# Altium integrated library TI Data Converters Analog to Digital Converter.IntLib: 2198 symbols (part 25 of 164)
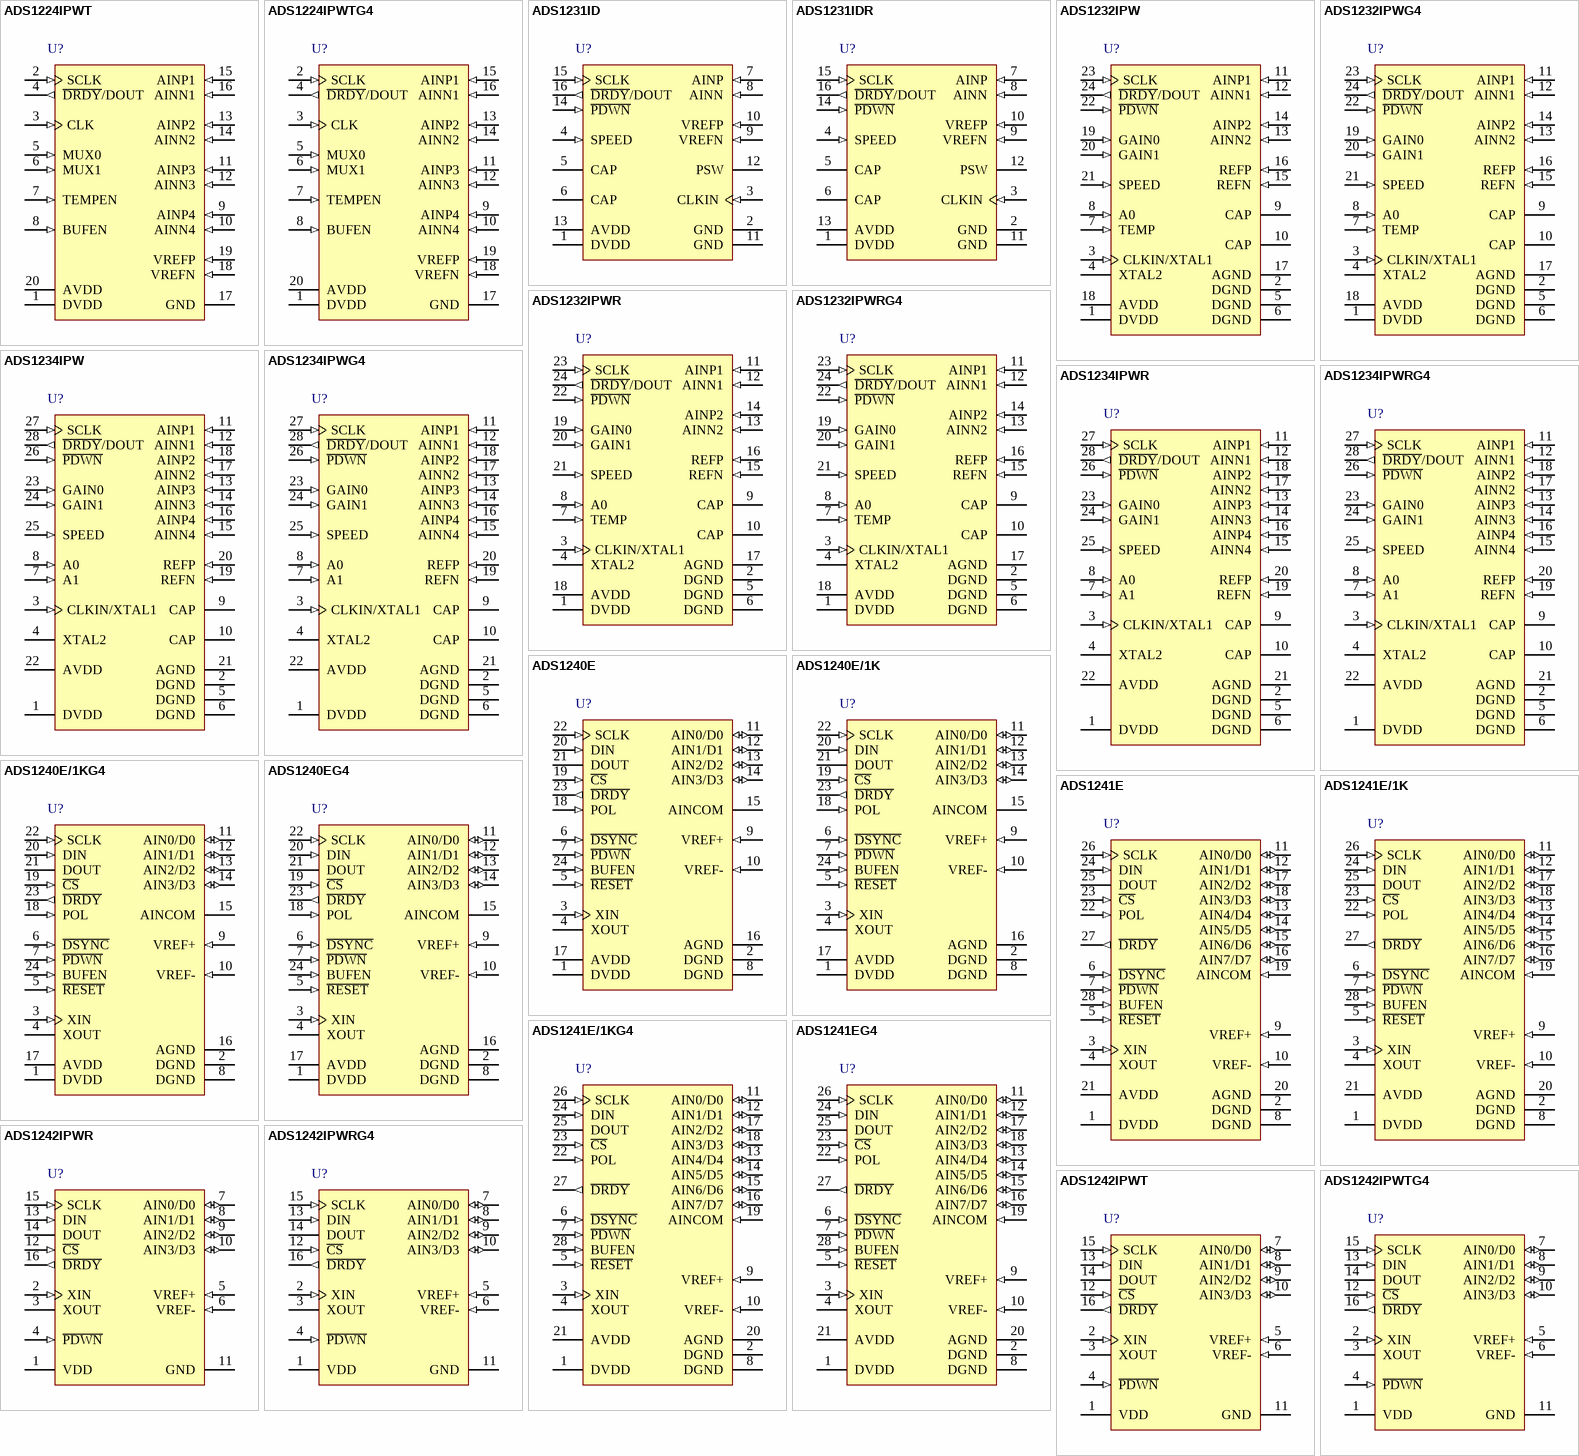
[diagram p150: symbols ADS1224IPWT to ADS1242IPWTG4]

## ADS1232IPWG4
designator U?
24-Bit, Ultra Low-Noise ADC, -40 to 105 degC, 24-pin SOP (PW24), Green (RoHS & no Sb/Br); Manufacturer: Texas Instruments; PartNumber: ADS1232IPWG4; # Input Channels: 2; Analog Voltage AV/DD(Max)(V): 5.3; Analog Voltage AV/DD(Min)(V): 2.7; Architecture: Delta-Sigma; ENOB(Bits): 21.8; Interface: Serial SPI; Resolution(Bits): 24; Sample Rate (max)(SPS): 80; SubFamily: Precision ADC (<=10MSPS); DatasheetVersion: SBAS350F; PackageVersion: 4040064-6/G, 02/2011; PackageReference: PW24; PackageDescription: 24-Pin Plastic Small Outline, Body 7.8 x 4.4 mm, Pitch 0.65 mm; Supplier 1: Digi-Key; Supplier Part Number 1: ADS1224IPWRG4-ND; Digital Supply(Max)(V): 5.3; Digital Supply(Min)(V): 2.7; Eco-Plan: Green (RoHS & no Sb/Br); Mounting Technology: Surface Mount; Code_JEDEC: MO-153; ComponentLink1Description: Manufacturer URL; ComponentLink1URL: http://www.ti.com/; ComponentLink2Description: Datasheet; ComponentLink2URL: http://www.ti.com/general/docs/lit/getliterature.tsp?genericPartNumber=ADS1232&fileType=pdf; ComponentLink3Description: Package Specification; ComponentLink3URL: http://www.ti.com/litv/pdf/mpds363
footprint TI-PW24_N (SOP, 24-Leads, Body 7.8x4.4mm, Pitch 0.65mm, IPC Medium Density)
footprint TI-PW24_L (SOP, 24-Leads, Body 7.8x4.4mm, Pitch 0.65mm, IPC High Density)
footprint TI-PW24_M (SOP, 24-Leads, Body 7.8x4.4mm, Pitch 0.65mm, IPC Low Density)
pins: 1 DVDD (power) "Digital Power Supply: 2.7V to 5.3V", 2 DGND (power) "Digital Ground", 3 CLKIN/XTAL1 (in) "External Clock Input: typically 4.9152MHz. Tie low to activate internal oscillator. Can also use external crystal across CLKIN/XTAL1 and XTAL2 pins. See text for more details.", 4 XTAL2 "External crystal connection", 5 DGND (power) "Digital Ground", 6 DGND (power) "Digital Ground", 7 TEMP (in) "Onboard Temperature Diode Enable", 8 A0 (in) "Input Mux Select Input pin (LSB)", 9 CAP "Gain Amp Bypass Capacitor Connection", 10 CAP "Gain Amp Bypass Capacitor Connection", 11 AINP1 (in) "Positive Analog Input Channel 1", 12 AINN1 (in) "Negative Analog Input Channel 1", 13 AINN2 (in) "Negative Analog Input Channel 2", 14 AINP2 (in) "Positive Analog Input Channel 2", 15 REFN (in) "Negative Reference Input", 16 REFP (in) "Positive Reference Input", 17 AGND (power) "Analog Ground", 18 AVDD (power) "Analog Power Supply, 2.7V to 5.3V", 19 GAIN0 (in) "Gain Select", 20 GAIN1 (in) "Gain Select", 21 SPEED (in) "Data Rate Select", 22 ~{PDWN} (in) "Power-Down: Holding this pin low powers down the entire converter and resets the ADC.", 23 SCLK (in) "Serial Clock: Clock out data on the rising edge.Also used to initiate Offset Calibration and Sleep modes. See text for more details.", 24 ~{DRDY}/DOUT (out) "Dual-Purpose Output Data Ready: Indicates valid data by going low.Data Output: Outputs data, MSB first, on the first rising edge of SCLK."

## ADS1232IPWR
designator U?
24-Bit, Ultra Low-Noise ADC, -40 to 105 degC, 24-pin SOP (PW24), Green (RoHS & no Sb/Br); Manufacturer: Texas Instruments; PartNumber: ADS1232IPWR; # Input Channels: 2; Analog Voltage AV/DD(Max)(V): 5.3; Analog Voltage AV/DD(Min)(V): 2.7; Architecture: Delta-Sigma; ENOB(Bits): 21.8; Interface: Serial SPI; Resolution(Bits): 24; Sample Rate (max)(SPS): 80; SubFamily: Precision ADC (<=10MSPS); DatasheetVersion: SBAS350F; PackageVersion: 4040064-6/G, 02/2011; PackageReference: PW24; PackageDescription: 24-Pin Plastic Small Outline, Body 7.8 x 4.4 mm, Pitch 0.65 mm; Supplier 1: Digi-Key; Supplier Part Number 1: 296-16923-2-ND; Digital Supply(Max)(V): 5.3; Digital Supply(Min)(V): 2.7; Eco-Plan: Green (RoHS & no Sb/Br); Mounting Technology: Surface Mount; Code_JEDEC: MO-153; ComponentLink1Description: Manufacturer URL; ComponentLink1URL: http://www.ti.com/; ComponentLink2Description: Datasheet; ComponentLink2URL: http://www.ti.com/general/docs/lit/getliterature.tsp?genericPartNumber=ADS1232&fileType=pdf; ComponentLink3Description: Package Specification; ComponentLink3URL: http://www.ti.com/litv/pdf/mpds363
footprint TI-PW24_N (SOP, 24-Leads, Body 7.8x4.4mm, Pitch 0.65mm, IPC Medium Density)
footprint TI-PW24_L (SOP, 24-Leads, Body 7.8x4.4mm, Pitch 0.65mm, IPC High Density)
footprint TI-PW24_M (SOP, 24-Leads, Body 7.8x4.4mm, Pitch 0.65mm, IPC Low Density)
pins: 1 DVDD (power) "Digital Power Supply: 2.7V to 5.3V", 2 DGND (power) "Digital Ground", 3 CLKIN/XTAL1 (in) "External Clock Input: typically 4.9152MHz. Tie low to activate internal oscillator. Can also use external crystal across CLKIN/XTAL1 and XTAL2 pins. See text for more details.", 4 XTAL2 "External crystal connection", 5 DGND (power) "Digital Ground", 6 DGND (power) "Digital Ground", 7 TEMP (in) "Onboard Temperature Diode Enable", 8 A0 (in) "Input Mux Select Input pin (LSB)", 9 CAP "Gain Amp Bypass Capacitor Connection", 10 CAP "Gain Amp Bypass Capacitor Connection", 11 AINP1 (in) "Positive Analog Input Channel 1", 12 AINN1 (in) "Negative Analog Input Channel 1", 13 AINN2 (in) "Negative Analog Input Channel 2", 14 AINP2 (in) "Positive Analog Input Channel 2", 15 REFN (in) "Negative Reference Input", 16 REFP (in) "Positive Reference Input", 17 AGND (power) "Analog Ground", 18 AVDD (power) "Analog Power Supply, 2.7V to 5.3V", 19 GAIN0 (in) "Gain Select", 20 GAIN1 (in) "Gain Select", 21 SPEED (in) "Data Rate Select", 22 ~{PDWN} (in) "Power-Down: Holding this pin low powers down the entire converter and resets the ADC.", 23 SCLK (in) "Serial Clock: Clock out data on the rising edge.Also used to initiate Offset Calibration and Sleep modes. See text for more details.", 24 ~{DRDY}/DOUT (out) "Dual-Purpose Output Data Ready: Indicates valid data by going low.Data Output: Outputs data, MSB first, on the first rising edge of SCLK."

## ADS1232IPWRG4
designator U?
24-Bit, Ultra Low-Noise ADC, -40 to 105 degC, 24-pin SOP (PW24), Green (RoHS & no Sb/Br); Manufacturer: Texas Instruments; PartNumber: ADS1232IPWRG4; # Input Channels: 2; Analog Voltage AV/DD(Max)(V): 5.3; Analog Voltage AV/DD(Min)(V): 2.7; Architecture: Delta-Sigma; ENOB(Bits): 21.8; Interface: Serial SPI; Resolution(Bits): 24; Sample Rate (max)(SPS): 80; SubFamily: Precision ADC (<=10MSPS); DatasheetVersion: SBAS350F; PackageVersion: 4040064-6/G, 02/2011; PackageReference: PW24; PackageDescription: 24-Pin Plastic Small Outline, Body 7.8 x 4.4 mm, Pitch 0.65 mm; Supplier 1: Digi-Key; Supplier Part Number 1: ADS1224IPWTG4-ND; Digital Supply(Max)(V): 5.3; Digital Supply(Min)(V): 2.7; Eco-Plan: Green (RoHS & no Sb/Br); Mounting Technology: Surface Mount; Code_JEDEC: MO-153; ComponentLink1Description: Manufacturer URL; ComponentLink1URL: http://www.ti.com/; ComponentLink2Description: Datasheet; ComponentLink2URL: http://www.ti.com/general/docs/lit/getliterature.tsp?genericPartNumber=ADS1232&fileType=pdf; ComponentLink3Description: Package Specification; ComponentLink3URL: http://www.ti.com/litv/pdf/mpds363
footprint TI-PW24_N (SOP, 24-Leads, Body 7.8x4.4mm, Pitch 0.65mm, IPC Medium Density)
footprint TI-PW24_L (SOP, 24-Leads, Body 7.8x4.4mm, Pitch 0.65mm, IPC High Density)
footprint TI-PW24_M (SOP, 24-Leads, Body 7.8x4.4mm, Pitch 0.65mm, IPC Low Density)
pins: 1 DVDD (power) "Digital Power Supply: 2.7V to 5.3V", 2 DGND (power) "Digital Ground", 3 CLKIN/XTAL1 (in) "External Clock Input: typically 4.9152MHz. Tie low to activate internal oscillator. Can also use external crystal across CLKIN/XTAL1 and XTAL2 pins. See text for more details.", 4 XTAL2 "External crystal connection", 5 DGND (power) "Digital Ground", 6 DGND (power) "Digital Ground", 7 TEMP (in) "Onboard Temperature Diode Enable", 8 A0 (in) "Input Mux Select Input pin (LSB)", 9 CAP "Gain Amp Bypass Capacitor Connection", 10 CAP "Gain Amp Bypass Capacitor Connection", 11 AINP1 (in) "Positive Analog Input Channel 1", 12 AINN1 (in) "Negative Analog Input Channel 1", 13 AINN2 (in) "Negative Analog Input Channel 2", 14 AINP2 (in) "Positive Analog Input Channel 2", 15 REFN (in) "Negative Reference Input", 16 REFP (in) "Positive Reference Input", 17 AGND (power) "Analog Ground", 18 AVDD (power) "Analog Power Supply, 2.7V to 5.3V", 19 GAIN0 (in) "Gain Select", 20 GAIN1 (in) "Gain Select", 21 SPEED (in) "Data Rate Select", 22 ~{PDWN} (in) "Power-Down: Holding this pin low powers down the entire converter and resets the ADC.", 23 SCLK (in) "Serial Clock: Clock out data on the rising edge.Also used to initiate Offset Calibration and Sleep modes. See text for more details.", 24 ~{DRDY}/DOUT (out) "Dual-Purpose Output Data Ready: Indicates valid data by going low.Data Output: Outputs data, MSB first, on the first rising edge of SCLK."

## ADS1234IPW
designator U?
24-Bit, Ultra Low-Noise ADC, -40 to 105 degC, 28-pin SOP (PW28), Green (RoHS & no Sb/Br); Manufacturer: Texas Instruments; PartNumber: ADS1234IPW; # Input Channels: 4; Analog Voltage AV/DD(Max)(V): 5.3; Analog Voltage AV/DD(Min)(V): 2.7; Architecture: Delta-Sigma; ENOB(Bits): 23.5; Interface: Serial SPI; Resolution(Bits): 24; Sample Rate (max)(SPS): 80; SubFamily: Precision ADC (<=10MSPS); DatasheetVersion: SBAS350F; PackageVersion: 4040064-7/G, 02/2011; PackageReference: PW28; PackageDescription: 28-Pin Plastic Small Outline, Body 9.7 x 4.4 mm, Pitch 0.65 mm; Supplier 1: Digi-Key; Supplier Part Number 1: 296-13000-5-ND; Digital Supply(Max)(V): 5.3; Digital Supply(Min)(V): 2.7; Eco-Plan: Green (RoHS & no Sb/Br); Mounting Technology: Surface Mount; Code_JEDEC: MO-153; ComponentLink1Description: Manufacturer URL; ComponentLink1URL: http://www.ti.com/; ComponentLink2Description: Datasheet; ComponentLink2URL: http://www.ti.com/general/docs/lit/getliterature.tsp?genericPartNumber=ADS1234&fileType=pdf; ComponentLink3Description: Package Specification; ComponentLink3URL: http://www.ti.com/litv/pdf/mpds364
footprint TI-PW28_N (SOP, 28-Leads, Body 9.7x4.4mm, Pitch 0.65mm, IPC Medium Density)
footprint TI-PW28_L (SOP, 28-Leads, Body 9.7x4.4mm, Pitch 0.65mm, IPC High Density)
footprint TI-PW28_M (SOP, 28-Leads, Body 9.7x4.4mm, Pitch 0.65mm, IPC Low Density)
pins: 1 DVDD (power) "Digital Power Supply: 2.7V to 5.3V", 2 DGND (power) "Digital Ground", 3 CLKIN/XTAL1 (in) "External Clock Input: typically 4.9152MHz. Tie low to activate internal oscillator. Can also use external crystal across CLKIN/XTAL1 and XTAL2 pins. See text for more details.", 4 XTAL2 "External crystal connection", 5 DGND (power) "Digital Ground", 6 DGND (power) "Digital Ground", 7 A1 (in) "Input Mux Select Input pin (MSB)", 8 A0 (in) "Input Mux Select Input pin (LSB)", 9 CAP "Gain Amp Bypass Capacitor Connection", 10 CAP "Gain Amp Bypass Capacitor Connection", 11 AINP1 (in) "Positive Analog Input Channel 1", 12 AINN1 (in) "Negative Analog Input Channel 1", 13 AINP3 (in) "Positive Analog Input Channel 3", 14 AINN3 (in) "Negative Analog Input Channel 3", 15 AINN4 (in) "Negative Analog Input Channel 4", 16 AINP4 (in) "Positive Analog Input Channel 4", 17 AINN2 (in) "Negative Analog Input Channel 2", 18 AINP2 (in) "Positive Analog Input Channel 2", 19 REFN (in) "Negative Reference Input", 20 REFP (in) "Positive Reference Input", 21 AGND (power) "Analog Ground", 22 AVDD (power) "Analog Power Supply, 2.7V to 5.3V", 23 GAIN0 (in) "Gain Select", 24 GAIN1 (in) "Gain Select", 25 SPEED (in) "Data Rate Select", 26 ~{PDWN} (in) "Power-Down: Holding this pin low powers down the entire converter and resets the ADC.", 27 SCLK (in) "Serial Clock: Clock out data on the rising edge. Also used to initiate Offset Calibration and Sleep modes. See text for more details.", 28 ~{DRDY}/DOUT (out) "Dual-Purpose Output: Data Ready: Indicates valid data by going low. Data Output: Outputs data, MSB first, on the first rising edge of SCLK."

## ADS1234IPWG4
designator U?
24-Bit, Ultra Low-Noise ADC, -40 to 105 degC, 28-pin SOP (PW28), Green (RoHS & no Sb/Br); Manufacturer: Texas Instruments; PartNumber: ADS1234IPWG4; # Input Channels: 4; Analog Voltage AV/DD(Max)(V): 5.3; Analog Voltage AV/DD(Min)(V): 2.7; Architecture: Delta-Sigma; ENOB(Bits): 23.5; Interface: Serial SPI; Resolution(Bits): 24; Sample Rate (max)(SPS): 80; SubFamily: Precision ADC (<=10MSPS); DatasheetVersion: SBAS350F; PackageVersion: 4040064-7/G, 02/2011; PackageReference: PW28; PackageDescription: 28-Pin Plastic Small Outline, Body 9.7 x 4.4 mm, Pitch 0.65 mm; Supplier 1: Digi-Key; Supplier Part Number 1: TLV2556IPWG4-ND; Digital Supply(Max)(V): 5.3; Digital Supply(Min)(V): 2.7; Eco-Plan: Green (RoHS & no Sb/Br); Mounting Technology: Surface Mount; Code_JEDEC: MO-153; ComponentLink1Description: Manufacturer URL; ComponentLink1URL: http://www.ti.com/; ComponentLink2Description: Datasheet; ComponentLink2URL: http://www.ti.com/general/docs/lit/getliterature.tsp?genericPartNumber=ADS1234&fileType=pdf; ComponentLink3Description: Package Specification; ComponentLink3URL: http://www.ti.com/litv/pdf/mpds364
footprint TI-PW28_N (SOP, 28-Leads, Body 9.7x4.4mm, Pitch 0.65mm, IPC Medium Density)
footprint TI-PW28_L (SOP, 28-Leads, Body 9.7x4.4mm, Pitch 0.65mm, IPC High Density)
footprint TI-PW28_M (SOP, 28-Leads, Body 9.7x4.4mm, Pitch 0.65mm, IPC Low Density)
pins: 1 DVDD (power) "Digital Power Supply: 2.7V to 5.3V", 2 DGND (power) "Digital Ground", 3 CLKIN/XTAL1 (in) "External Clock Input: typically 4.9152MHz. Tie low to activate internal oscillator. Can also use external crystal across CLKIN/XTAL1 and XTAL2 pins. See text for more details.", 4 XTAL2 "External crystal connection", 5 DGND (power) "Digital Ground", 6 DGND (power) "Digital Ground", 7 A1 (in) "Input Mux Select Input pin (MSB)", 8 A0 (in) "Input Mux Select Input pin (LSB)", 9 CAP "Gain Amp Bypass Capacitor Connection", 10 CAP "Gain Amp Bypass Capacitor Connection", 11 AINP1 (in) "Positive Analog Input Channel 1", 12 AINN1 (in) "Negative Analog Input Channel 1", 13 AINP3 (in) "Positive Analog Input Channel 3", 14 AINN3 (in) "Negative Analog Input Channel 3", 15 AINN4 (in) "Negative Analog Input Channel 4", 16 AINP4 (in) "Positive Analog Input Channel 4", 17 AINN2 (in) "Negative Analog Input Channel 2", 18 AINP2 (in) "Positive Analog Input Channel 2", 19 REFN (in) "Negative Reference Input", 20 REFP (in) "Positive Reference Input", 21 AGND (power) "Analog Ground", 22 AVDD (power) "Analog Power Supply, 2.7V to 5.3V", 23 GAIN0 (in) "Gain Select", 24 GAIN1 (in) "Gain Select", 25 SPEED (in) "Data Rate Select", 26 ~{PDWN} (in) "Power-Down: Holding this pin low powers down the entire converter and resets the ADC.", 27 SCLK (in) "Serial Clock: Clock out data on the rising edge. Also used to initiate Offset Calibration and Sleep modes. See text for more details.", 28 ~{DRDY}/DOUT (out) "Dual-Purpose Output: Data Ready: Indicates valid data by going low. Data Output: Outputs data, MSB first, on the first rising edge of SCLK."

## ADS1234IPWR
designator U?
24-Bit, Ultra Low-Noise ADC, -40 to 105 degC, 28-pin SOP (PW28), Green (RoHS & no Sb/Br); Manufacturer: Texas Instruments; PartNumber: ADS1234IPWR; # Input Channels: 4; Analog Voltage AV/DD(Max)(V): 5.3; Analog Voltage AV/DD(Min)(V): 2.7; Architecture: Delta-Sigma; ENOB(Bits): 23.5; Interface: Serial SPI; Resolution(Bits): 24; Sample Rate (max)(SPS): 80; SubFamily: Precision ADC (<=10MSPS); DatasheetVersion: SBAS350F; PackageVersion: 4040064-7/G, 02/2011; PackageReference: PW28; PackageDescription: 28-Pin Plastic Small Outline, Body 9.7 x 4.4 mm, Pitch 0.65 mm; Supplier 1: Digi-Key; Supplier Part Number 1: TLV2556IPWR-ND; Digital Supply(Max)(V): 5.3; Digital Supply(Min)(V): 2.7; Eco-Plan: Green (RoHS & no Sb/Br); Mounting Technology: Surface Mount; Code_JEDEC: MO-153; ComponentLink1Description: Manufacturer URL; ComponentLink1URL: http://www.ti.com/; ComponentLink2Description: Datasheet; ComponentLink2URL: http://www.ti.com/general/docs/lit/getliterature.tsp?genericPartNumber=ADS1234&fileType=pdf; ComponentLink3Description: Package Specification; ComponentLink3URL: http://www.ti.com/litv/pdf/mpds364
footprint TI-PW28_N (SOP, 28-Leads, Body 9.7x4.4mm, Pitch 0.65mm, IPC Medium Density)
footprint TI-PW28_L (SOP, 28-Leads, Body 9.7x4.4mm, Pitch 0.65mm, IPC High Density)
footprint TI-PW28_M (SOP, 28-Leads, Body 9.7x4.4mm, Pitch 0.65mm, IPC Low Density)
pins: 1 DVDD (power) "Digital Power Supply: 2.7V to 5.3V", 2 DGND (power) "Digital Ground", 3 CLKIN/XTAL1 (in) "External Clock Input: typically 4.9152MHz. Tie low to activate internal oscillator. Can also use external crystal across CLKIN/XTAL1 and XTAL2 pins. See text for more details.", 4 XTAL2 "External crystal connection", 5 DGND (power) "Digital Ground", 6 DGND (power) "Digital Ground", 7 A1 (in) "Input Mux Select Input pin (MSB)", 8 A0 (in) "Input Mux Select Input pin (LSB)", 9 CAP "Gain Amp Bypass Capacitor Connection", 10 CAP "Gain Amp Bypass Capacitor Connection", 11 AINP1 (in) "Positive Analog Input Channel 1", 12 AINN1 (in) "Negative Analog Input Channel 1", 13 AINP3 (in) "Positive Analog Input Channel 3", 14 AINN3 (in) "Negative Analog Input Channel 3", 15 AINN4 (in) "Negative Analog Input Channel 4", 16 AINP4 (in) "Positive Analog Input Channel 4", 17 AINN2 (in) "Negative Analog Input Channel 2", 18 AINP2 (in) "Positive Analog Input Channel 2", 19 REFN (in) "Negative Reference Input", 20 REFP (in) "Positive Reference Input", 21 AGND (power) "Analog Ground", 22 AVDD (power) "Analog Power Supply, 2.7V to 5.3V", 23 GAIN0 (in) "Gain Select", 24 GAIN1 (in) "Gain Select", 25 SPEED (in) "Data Rate Select", 26 ~{PDWN} (in) "Power-Down: Holding this pin low powers down the entire converter and resets the ADC.", 27 SCLK (in) "Serial Clock: Clock out data on the rising edge. Also used to initiate Offset Calibration and Sleep modes. See text for more details.", 28 ~{DRDY}/DOUT (out) "Dual-Purpose Output: Data Ready: Indicates valid data by going low. Data Output: Outputs data, MSB first, on the first rising edge of SCLK."

## ADS1234IPWRG4
designator U?
24-Bit, Ultra Low-Noise ADC, -40 to 105 degC, 28-pin SOP (PW28), Green (RoHS & no Sb/Br); Manufacturer: Texas Instruments; PartNumber: ADS1234IPWRG4; # Input Channels: 4; Analog Voltage AV/DD(Max)(V): 5.3; Analog Voltage AV/DD(Min)(V): 2.7; Architecture: Delta-Sigma; ENOB(Bits): 23.5; Interface: Serial SPI; Resolution(Bits): 24; Sample Rate (max)(SPS): 80; SubFamily: Precision ADC (<=10MSPS); DatasheetVersion: SBAS350F; PackageVersion: 4040064-7/G, 02/2011; PackageReference: PW28; PackageDescription: 28-Pin Plastic Small Outline, Body 9.7 x 4.4 mm, Pitch 0.65 mm; Supplier 1: Digi-Key; Supplier Part Number 1: TLV2556IPWRG4-ND; Digital Supply(Max)(V): 5.3; Digital Supply(Min)(V): 2.7; Eco-Plan: Green (RoHS & no Sb/Br); Mounting Technology: Surface Mount; Code_JEDEC: MO-153; ComponentLink1Description: Manufacturer URL; ComponentLink1URL: http://www.ti.com/; ComponentLink2Description: Datasheet; ComponentLink2URL: http://www.ti.com/general/docs/lit/getliterature.tsp?genericPartNumber=ADS1234&fileType=pdf; ComponentLink3Description: Package Specification; ComponentLink3URL: http://www.ti.com/litv/pdf/mpds364
footprint TI-PW28_N (SOP, 28-Leads, Body 9.7x4.4mm, Pitch 0.65mm, IPC Medium Density)
footprint TI-PW28_L (SOP, 28-Leads, Body 9.7x4.4mm, Pitch 0.65mm, IPC High Density)
footprint TI-PW28_M (SOP, 28-Leads, Body 9.7x4.4mm, Pitch 0.65mm, IPC Low Density)
pins: 1 DVDD (power) "Digital Power Supply: 2.7V to 5.3V", 2 DGND (power) "Digital Ground", 3 CLKIN/XTAL1 (in) "External Clock Input: typically 4.9152MHz. Tie low to activate internal oscillator. Can also use external crystal across CLKIN/XTAL1 and XTAL2 pins. See text for more details.", 4 XTAL2 "External crystal connection", 5 DGND (power) "Digital Ground", 6 DGND (power) "Digital Ground", 7 A1 (in) "Input Mux Select Input pin (MSB)", 8 A0 (in) "Input Mux Select Input pin (LSB)", 9 CAP "Gain Amp Bypass Capacitor Connection", 10 CAP "Gain Amp Bypass Capacitor Connection", 11 AINP1 (in) "Positive Analog Input Channel 1", 12 AINN1 (in) "Negative Analog Input Channel 1", 13 AINP3 (in) "Positive Analog Input Channel 3", 14 AINN3 (in) "Negative Analog Input Channel 3", 15 AINN4 (in) "Negative Analog Input Channel 4", 16 AINP4 (in) "Positive Analog Input Channel 4", 17 AINN2 (in) "Negative Analog Input Channel 2", 18 AINP2 (in) "Positive Analog Input Channel 2", 19 REFN (in) "Negative Reference Input", 20 REFP (in) "Positive Reference Input", 21 AGND (power) "Analog Ground", 22 AVDD (power) "Analog Power Supply, 2.7V to 5.3V", 23 GAIN0 (in) "Gain Select", 24 GAIN1 (in) "Gain Select", 25 SPEED (in) "Data Rate Select", 26 ~{PDWN} (in) "Power-Down: Holding this pin low powers down the entire converter and resets the ADC.", 27 SCLK (in) "Serial Clock: Clock out data on the rising edge. Also used to initiate Offset Calibration and Sleep modes. See text for more details.", 28 ~{DRDY}/DOUT (out) "Dual-Purpose Output: Data Ready: Indicates valid data by going low. Data Output: Outputs data, MSB first, on the first rising edge of SCLK."

## ADS1240E
designator U?
24-Bit ADC, -40 to 85 degC, 24-pin SOP (DB24), Green (RoHS & no Sb/Br); Manufacturer: Texas Instruments; PartNumber: ADS1240E; # Input Channels: 4; Analog Voltage AV/DD(Max)(V): 5.25; Analog Voltage AV/DD(Min)(V): 2.7; Architecture: Delta-Sigma; Interface: Serial SPI; Resolution(Bits): 24; Sample Rate (max)(SPS): 15; SubFamily: Precision ADC (<=10MSPS); DatasheetVersion: SBAS173E; PackageVersion: 4040065/E, 12/2001; PackageReference: DB24; PackageDescription: 24-Pin Plastic Small Outline, Body 8.2 x 5.3 mm, Pitch 0.65 mm; Supplier 1: Digi-Key; Supplier Part Number 1: ADS1243IPWR-ND; Digital Supply(Max)(V): 5.25; Digital Supply(Min)(V): 2.7; Eco-Plan: Green (RoHS & no Sb/Br); Mounting Technology: Surface Mount; Code_JEDEC: MO-150; ComponentLink1Description: Manufacturer URL; ComponentLink1URL: http://www.ti.com/; ComponentLink2Description: Datasheet; ComponentLink2URL: http://www.ti.com/general/docs/lit/getliterature.tsp?genericPartNumber=ADS1240&fileType=pdf; ComponentLink3Description: Package Specification; ComponentLink3URL: http://www.ti.com/lit/ml/msso002e/msso002e.pdf
footprint TI-DB24_N (SOP, 24-Leads, Body 8.2x5.3mm, Pitch 0.65mm, IPC Medium Density)
footprint TI-DB24_L (SOP, 24-Leads, Body 8.2x5.3mm, Pitch 0.65mm, IPC High Density)
footprint TI-DB24_M (SOP, 24-Leads, Body 8.2x5.3mm, Pitch 0.65mm, IPC Low Density)
pins: 1 DVDD (power) "Digital Power Supply", 2 DGND (power) "Digital Ground", 3 XIN (in) "Clock Input", 4 XOUT "Clock Output, used with external crystals.", 5 ~{RESET} (in) "Active LOW, resets the entire device.", 6 ~{DSYNC} (in) "Active LOW, Synchronization Control", 7 ~{PDWN} (in) "Active LOW, Power Down. The power down function shuts down the analog and digital circuits.", 8 DGND (power) "Digital Ground", 9 VREF+ (in) "Positive Differential Reference Input", 10 VREF- (in) "Negative Differential Reference Input", 11 AIN0/D0 (io) "Analog Input 0 / Data I/O 0", 12 AIN1/D1 (io) "Analog Input 1 / Data I/O 1", 13 AIN2/D2 (io) "Analog Input 2 / Data I/O 2", 14 AIN3/D3 (io) "Analog Input 3 / Data I/O 3", 15 AINCOM (power) "Analog Input Common, connect to AGND if unused.", 16 AGND (power) "Analog Ground", 17 AVDD (power) "Analog Power Supply", 18 POL (in) "Serial Clock Polarity", 19 ~{CS} (in) "Active LOW, Chip Select", 20 DIN (in) "Serial Data Input, Schmitt Trigger", 21 DOUT (hiz) "Serial Data Output", 22 SCLK (in) "Serial Clock, Schmitt Trigger", 23 ~{DRDY} (out) "Active LOW, Data Ready", 24 BUFEN (in) "Buffer Enable"

## ADS1240E/1K
designator U?
24-Bit ADC, -40 to 85 degC, 24-pin SOP (DB24), Green (RoHS & no Sb/Br); Manufacturer: Texas Instruments; PartNumber: ADS1240E/1K; # Input Channels: 4; Analog Voltage AV/DD(Max)(V): 5.25; Analog Voltage AV/DD(Min)(V): 2.7; Architecture: Delta-Sigma; Interface: Serial SPI; Resolution(Bits): 24; Sample Rate (max)(SPS): 15; SubFamily: Precision ADC (<=10MSPS); DatasheetVersion: SBAS173E; PackageVersion: 4040065/E, 12/2001; PackageReference: DB24; PackageDescription: 24-Pin Plastic Small Outline, Body 8.2 x 5.3 mm, Pitch 0.65 mm; Supplier 1: Digi-Key; Supplier Part Number 1: ADS1243IPWRG4-ND; Digital Supply(Max)(V): 5.25; Digital Supply(Min)(V): 2.7; Eco-Plan: Green (RoHS & no Sb/Br); Mounting Technology: Surface Mount; Code_JEDEC: MO-150; ComponentLink1Description: Manufacturer URL; ComponentLink1URL: http://www.ti.com/; ComponentLink2Description: Datasheet; ComponentLink2URL: http://www.ti.com/general/docs/lit/getliterature.tsp?genericPartNumber=ADS1240&fileType=pdf; ComponentLink3Description: Package Specification; ComponentLink3URL: http://www.ti.com/lit/ml/msso002e/msso002e.pdf
footprint TI-DB24_N (SOP, 24-Leads, Body 8.2x5.3mm, Pitch 0.65mm, IPC Medium Density)
footprint TI-DB24_L (SOP, 24-Leads, Body 8.2x5.3mm, Pitch 0.65mm, IPC High Density)
footprint TI-DB24_M (SOP, 24-Leads, Body 8.2x5.3mm, Pitch 0.65mm, IPC Low Density)
pins: 1 DVDD (power) "Digital Power Supply", 2 DGND (power) "Digital Ground", 3 XIN (in) "Clock Input", 4 XOUT "Clock Output, used with external crystals.", 5 ~{RESET} (in) "Active LOW, resets the entire device.", 6 ~{DSYNC} (in) "Active LOW, Synchronization Control", 7 ~{PDWN} (in) "Active LOW, Power Down. The power down function shuts down the analog and digital circuits.", 8 DGND (power) "Digital Ground", 9 VREF+ (in) "Positive Differential Reference Input", 10 VREF- (in) "Negative Differential Reference Input", 11 AIN0/D0 (io) "Analog Input 0 / Data I/O 0", 12 AIN1/D1 (io) "Analog Input 1 / Data I/O 1", 13 AIN2/D2 (io) "Analog Input 2 / Data I/O 2", 14 AIN3/D3 (io) "Analog Input 3 / Data I/O 3", 15 AINCOM (power) "Analog Input Common, connect to AGND if unused.", 16 AGND (power) "Analog Ground", 17 AVDD (power) "Analog Power Supply", 18 POL (in) "Serial Clock Polarity", 19 ~{CS} (in) "Active LOW, Chip Select", 20 DIN (in) "Serial Data Input, Schmitt Trigger", 21 DOUT (hiz) "Serial Data Output", 22 SCLK (in) "Serial Clock, Schmitt Trigger", 23 ~{DRDY} (out) "Active LOW, Data Ready", 24 BUFEN (in) "Buffer Enable"

## ADS1240E/1KG4
designator U?
24-Bit ADC, -40 to 85 degC, 24-pin SOP (DB24), Green (RoHS & no Sb/Br); Manufacturer: Texas Instruments; PartNumber: ADS1240E/1KG4; # Input Channels: 4; Analog Voltage AV/DD(Max)(V): 5.25; Analog Voltage AV/DD(Min)(V): 2.7; Architecture: Delta-Sigma; Interface: Serial SPI; Resolution(Bits): 24; Sample Rate (max)(SPS): 15; SubFamily: Precision ADC (<=10MSPS); DatasheetVersion: SBAS173E; PackageVersion: 4040065/E, 12/2001; PackageReference: DB24; PackageDescription: 24-Pin Plastic Small Outline, Body 8.2 x 5.3 mm, Pitch 0.65 mm; Supplier 1: Digi-Key; Supplier Part Number 1: ADS1243IPWTTR-ND; Digital Supply(Max)(V): 5.25; Digital Supply(Min)(V): 2.7; Eco-Plan: Green (RoHS & no Sb/Br); Mounting Technology: Surface Mount; Code_JEDEC: MO-150; ComponentLink1Description: Manufacturer URL; ComponentLink1URL: http://www.ti.com/; ComponentLink2Description: Datasheet; ComponentLink2URL: http://www.ti.com/general/docs/lit/getliterature.tsp?genericPartNumber=ADS1240&fileType=pdf; ComponentLink3Description: Package Specification; ComponentLink3URL: http://www.ti.com/lit/ml/msso002e/msso002e.pdf
footprint TI-DB24_N (SOP, 24-Leads, Body 8.2x5.3mm, Pitch 0.65mm, IPC Medium Density)
footprint TI-DB24_L (SOP, 24-Leads, Body 8.2x5.3mm, Pitch 0.65mm, IPC High Density)
footprint TI-DB24_M (SOP, 24-Leads, Body 8.2x5.3mm, Pitch 0.65mm, IPC Low Density)
pins: 1 DVDD (power) "Digital Power Supply", 2 DGND (power) "Digital Ground", 3 XIN (in) "Clock Input", 4 XOUT "Clock Output, used with external crystals.", 5 ~{RESET} (in) "Active LOW, resets the entire device.", 6 ~{DSYNC} (in) "Active LOW, Synchronization Control", 7 ~{PDWN} (in) "Active LOW, Power Down. The power down function shuts down the analog and digital circuits.", 8 DGND (power) "Digital Ground", 9 VREF+ (in) "Positive Differential Reference Input", 10 VREF- (in) "Negative Differential Reference Input", 11 AIN0/D0 (io) "Analog Input 0 / Data I/O 0", 12 AIN1/D1 (io) "Analog Input 1 / Data I/O 1", 13 AIN2/D2 (io) "Analog Input 2 / Data I/O 2", 14 AIN3/D3 (io) "Analog Input 3 / Data I/O 3", 15 AINCOM (power) "Analog Input Common, connect to AGND if unused.", 16 AGND (power) "Analog Ground", 17 AVDD (power) "Analog Power Supply", 18 POL (in) "Serial Clock Polarity", 19 ~{CS} (in) "Active LOW, Chip Select", 20 DIN (in) "Serial Data Input, Schmitt Trigger", 21 DOUT (hiz) "Serial Data Output", 22 SCLK (in) "Serial Clock, Schmitt Trigger", 23 ~{DRDY} (out) "Active LOW, Data Ready", 24 BUFEN (in) "Buffer Enable"

## ADS1240EG4
designator U?
24-Bit ADC, -40 to 85 degC, 24-pin SOP (DB24), Green (RoHS & no Sb/Br); Manufacturer: Texas Instruments; PartNumber: ADS1240EG4; # Input Channels: 4; Analog Voltage AV/DD(Max)(V): 5.25; Analog Voltage AV/DD(Min)(V): 2.7; Architecture: Delta-Sigma; Interface: Serial SPI; Resolution(Bits): 24; Sample Rate (max)(SPS): 15; SubFamily: Precision ADC (<=10MSPS); DatasheetVersion: SBAS173E; PackageVersion: 4040065/E, 12/2001; PackageReference: DB24; PackageDescription: 24-Pin Plastic Small Outline, Body 8.2 x 5.3 mm, Pitch 0.65 mm; Supplier 1: Digi-Key; Supplier Part Number 1: ADS1243IPWTG4-ND; Digital Supply(Max)(V): 5.25; Digital Supply(Min)(V): 2.7; Eco-Plan: Green (RoHS & no Sb/Br); Mounting Technology: Surface Mount; Code_JEDEC: MO-150; ComponentLink1Description: Manufacturer URL; ComponentLink1URL: http://www.ti.com/; ComponentLink2Description: Datasheet; ComponentLink2URL: http://www.ti.com/general/docs/lit/getliterature.tsp?genericPartNumber=ADS1240&fileType=pdf; ComponentLink3Description: Package Specification; ComponentLink3URL: http://www.ti.com/lit/ml/msso002e/msso002e.pdf
footprint TI-DB24_N (SOP, 24-Leads, Body 8.2x5.3mm, Pitch 0.65mm, IPC Medium Density)
footprint TI-DB24_L (SOP, 24-Leads, Body 8.2x5.3mm, Pitch 0.65mm, IPC High Density)
footprint TI-DB24_M (SOP, 24-Leads, Body 8.2x5.3mm, Pitch 0.65mm, IPC Low Density)
pins: 1 DVDD (power) "Digital Power Supply", 2 DGND (power) "Digital Ground", 3 XIN (in) "Clock Input", 4 XOUT "Clock Output, used with external crystals.", 5 ~{RESET} (in) "Active LOW, resets the entire device.", 6 ~{DSYNC} (in) "Active LOW, Synchronization Control", 7 ~{PDWN} (in) "Active LOW, Power Down. The power down function shuts down the analog and digital circuits.", 8 DGND (power) "Digital Ground", 9 VREF+ (in) "Positive Differential Reference Input", 10 VREF- (in) "Negative Differential Reference Input", 11 AIN0/D0 (io) "Analog Input 0 / Data I/O 0", 12 AIN1/D1 (io) "Analog Input 1 / Data I/O 1", 13 AIN2/D2 (io) "Analog Input 2 / Data I/O 2", 14 AIN3/D3 (io) "Analog Input 3 / Data I/O 3", 15 AINCOM (power) "Analog Input Common, connect to AGND if unused.", 16 AGND (power) "Analog Ground", 17 AVDD (power) "Analog Power Supply", 18 POL (in) "Serial Clock Polarity", 19 ~{CS} (in) "Active LOW, Chip Select", 20 DIN (in) "Serial Data Input, Schmitt Trigger", 21 DOUT (hiz) "Serial Data Output", 22 SCLK (in) "Serial Clock, Schmitt Trigger", 23 ~{DRDY} (out) "Active LOW, Data Ready", 24 BUFEN (in) "Buffer Enable"

## ADS1241E
designator U?
24-Bit ADC, -40 to 85 degC, 28-pin SOP (DB28), Green (RoHS & no Sb/Br); Manufacturer: Texas Instruments; PartNumber: ADS1241E; # Input Channels: 8; Analog Voltage AV/DD(Max)(V): 5.25; Analog Voltage AV/DD(Min)(V): 2.7; Architecture: Delta-Sigma; Interface: Serial SPI; Resolution(Bits): 24; Sample Rate (max)(SPS): 15; SubFamily: Precision ADC (<=10MSPS); DatasheetVersion: SBAS173E; PackageVersion: 4040065/E, 12/2001; PackageReference: DB28; PackageDescription: 28-Pin Plastic Small Outline, Body 10.2 X 5.3 mm, Pitch 0.65 mm; Supplier 1: Digi-Key; Supplier Part Number 1: 296-10297-5-ND; Digital Supply(Max)(V): 5.25; Digital Supply(Min)(V): 2.7; Eco-Plan: Green (RoHS & no Sb/Br); Mounting Technology: Surface Mount; Code_JEDEC: MO-150; ComponentLink1Description: Manufacturer URL; ComponentLink1URL: http://www.ti.com/; ComponentLink2Description: Datasheet; ComponentLink2URL: http://www.ti.com/general/docs/lit/getliterature.tsp?genericPartNumber=ADS1241&fileType=pdf; ComponentLink3Description: Package Specification; ComponentLink3URL: http://www.ti.com/lit/ml/msso002e/msso002e.pdf
footprint TI-DB28_N (SOP, 28-Leads, Body 10.2x5.3mm, Pitch 0.65mm, IPC Medium Density)
footprint TI-DB28_L (SOP, 28-Leads, Body 10.2x5.3mm, Pitch 0.65mm, IPC High Density)
footprint TI-DB28_M (SOP, 28-Leads, Body 10.2x5.3mm, Pitch 0.65mm, IPC Low Density)
pins: 1 DVDD (power) "Digital Power Supply", 2 DGND (power) "Digital Ground", 3 XIN (in) "Clock Input", 4 XOUT "Clock Output, used with external crystals.", 5 ~{RESET} (in) "Active LOW, resets the entire device.", 6 ~{DSYNC} (in) "Active LOW, Synchronization Control", 7 ~{PDWN} (in) "Active LOW, Power Down. The power down func tion shuts down the analog and digital circuits.", 8 DGND (power) "Digital Ground", 9 VREF+ (in) "Positive Differential Reference Input", 10 VREF- (in) "Negative Differential Reference Input", 11 AIN0/D0 (io) "Analog Input 0 / Data I/O 0", 12 AIN1/D1 (io) "Analog Input 1 / Data I/O 1", 13 AIN4/D4 (io) "Analog Input 4 / Data I/O 4", 14 AIN5/D5 (io) "Analog Input 5 / Data I/O 5", 15 AIN6/D6 (io) "Analog Input 6 / Data I/O 6", 16 AIN7/D7 (io) "Analog Input 7 / Data I/O 7", 17 AIN2/D2 (io) "Analog Input 2 / Data I/O 2", 18 AIN3/D3 (io) "Analog Input 3 / Data I/O 3", 19 AINCOM (in) "Analog Input Common, connect to AGND if unused.", 20 AGND (power) "Analog Ground", 21 AVDD (power) "Analog Power Supply", 22 POL (in) "Serial Clock Polarity", 23 ~{CS} (in) "Active LOW, Chip Select", 24 DIN (in) "Serial Data Input, Schmitt Trigger", 25 DOUT (hiz) "Serial Data Output", 26 SCLK (in) "Serial Clock, Schmitt Trigger", 27 ~{DRDY} (out) "Active LOW, Data Ready", 28 BUFEN (in) "Buffer Enable"

## ADS1241E/1K
designator U?
24-Bit ADC, -40 to 85 degC, 28-pin SOP (DB28), Green (RoHS & no Sb/Br); Manufacturer: Texas Instruments; PartNumber: ADS1241E/1K; # Input Channels: 8; Analog Voltage AV/DD(Max)(V): 5.25; Analog Voltage AV/DD(Min)(V): 2.7; Architecture: Delta-Sigma; Interface: Serial SPI; Resolution(Bits): 24; Sample Rate (max)(SPS): 15; SubFamily: Precision ADC (<=10MSPS); DatasheetVersion: SBAS173E; PackageVersion: 4040065/E, 12/2001; PackageReference: DB28; PackageDescription: 28-Pin Plastic Small Outline, Body 10.2 X 5.3 mm, Pitch 0.65 mm; Supplier 1: Digi-Key; Supplier Part Number 1: TLC3574IPWG4-ND; Digital Supply(Max)(V): 5.25; Digital Supply(Min)(V): 2.7; Eco-Plan: Green (RoHS & no Sb/Br); Mounting Technology: Surface Mount; Code_JEDEC: MO-150; ComponentLink1Description: Manufacturer URL; ComponentLink1URL: http://www.ti.com/; ComponentLink2Description: Datasheet; ComponentLink2URL: http://www.ti.com/general/docs/lit/getliterature.tsp?genericPartNumber=ADS1241&fileType=pdf; ComponentLink3Description: Package Specification; ComponentLink3URL: http://www.ti.com/lit/ml/msso002e/msso002e.pdf
footprint TI-DB28_N (SOP, 28-Leads, Body 10.2x5.3mm, Pitch 0.65mm, IPC Medium Density)
footprint TI-DB28_L (SOP, 28-Leads, Body 10.2x5.3mm, Pitch 0.65mm, IPC High Density)
footprint TI-DB28_M (SOP, 28-Leads, Body 10.2x5.3mm, Pitch 0.65mm, IPC Low Density)
pins: 1 DVDD (power) "Digital Power Supply", 2 DGND (power) "Digital Ground", 3 XIN (in) "Clock Input", 4 XOUT "Clock Output, used with external crystals.", 5 ~{RESET} (in) "Active LOW, resets the entire device.", 6 ~{DSYNC} (in) "Active LOW, Synchronization Control", 7 ~{PDWN} (in) "Active LOW, Power Down. The power down func tion shuts down the analog and digital circuits.", 8 DGND (power) "Digital Ground", 9 VREF+ (in) "Positive Differential Reference Input", 10 VREF- (in) "Negative Differential Reference Input", 11 AIN0/D0 (io) "Analog Input 0 / Data I/O 0", 12 AIN1/D1 (io) "Analog Input 1 / Data I/O 1", 13 AIN4/D4 (io) "Analog Input 4 / Data I/O 4", 14 AIN5/D5 (io) "Analog Input 5 / Data I/O 5", 15 AIN6/D6 (io) "Analog Input 6 / Data I/O 6", 16 AIN7/D7 (io) "Analog Input 7 / Data I/O 7", 17 AIN2/D2 (io) "Analog Input 2 / Data I/O 2", 18 AIN3/D3 (io) "Analog Input 3 / Data I/O 3", 19 AINCOM (in) "Analog Input Common, connect to AGND if unused.", 20 AGND (power) "Analog Ground", 21 AVDD (power) "Analog Power Supply", 22 POL (in) "Serial Clock Polarity", 23 ~{CS} (in) "Active LOW, Chip Select", 24 DIN (in) "Serial Data Input, Schmitt Trigger", 25 DOUT (hiz) "Serial Data Output", 26 SCLK (in) "Serial Clock, Schmitt Trigger", 27 ~{DRDY} (out) "Active LOW, Data Ready", 28 BUFEN (in) "Buffer Enable"

## ADS1241E/1KG4
designator U?
24-Bit ADC, -40 to 85 degC, 28-pin SOP (DB28), Green (RoHS & no Sb/Br); Manufacturer: Texas Instruments; PartNumber: ADS1241E/1KG4; # Input Channels: 8; Analog Voltage AV/DD(Max)(V): 5.25; Analog Voltage AV/DD(Min)(V): 2.7; Architecture: Delta-Sigma; Interface: Serial SPI; Resolution(Bits): 24; Sample Rate (max)(SPS): 15; SubFamily: Precision ADC (<=10MSPS); DatasheetVersion: SBAS173E; PackageVersion: 4040065/E, 12/2001; PackageReference: DB28; PackageDescription: 28-Pin Plastic Small Outline, Body 10.2 X 5.3 mm, Pitch 0.65 mm; Supplier 1: Digi-Key; Supplier Part Number 1: 296-10256-5-ND; Digital Supply(Max)(V): 5.25; Digital Supply(Min)(V): 2.7; Eco-Plan: Green (RoHS & no Sb/Br); Mounting Technology: Surface Mount; Code_JEDEC: MO-150; ComponentLink1Description: Manufacturer URL; ComponentLink1URL: http://www.ti.com/; ComponentLink2Description: Datasheet; ComponentLink2URL: http://www.ti.com/general/docs/lit/getliterature.tsp?genericPartNumber=ADS1241&fileType=pdf; ComponentLink3Description: Package Specification; ComponentLink3URL: http://www.ti.com/lit/ml/msso002e/msso002e.pdf
footprint TI-DB28_N (SOP, 28-Leads, Body 10.2x5.3mm, Pitch 0.65mm, IPC Medium Density)
footprint TI-DB28_L (SOP, 28-Leads, Body 10.2x5.3mm, Pitch 0.65mm, IPC High Density)
footprint TI-DB28_M (SOP, 28-Leads, Body 10.2x5.3mm, Pitch 0.65mm, IPC Low Density)
pins: 1 DVDD (power) "Digital Power Supply", 2 DGND (power) "Digital Ground", 3 XIN (in) "Clock Input", 4 XOUT "Clock Output, used with external crystals.", 5 ~{RESET} (in) "Active LOW, resets the entire device.", 6 ~{DSYNC} (in) "Active LOW, Synchronization Control", 7 ~{PDWN} (in) "Active LOW, Power Down. The power down func tion shuts down the analog and digital circuits.", 8 DGND (power) "Digital Ground", 9 VREF+ (in) "Positive Differential Reference Input", 10 VREF- (in) "Negative Differential Reference Input", 11 AIN0/D0 (io) "Analog Input 0 / Data I/O 0", 12 AIN1/D1 (io) "Analog Input 1 / Data I/O 1", 13 AIN4/D4 (io) "Analog Input 4 / Data I/O 4", 14 AIN5/D5 (io) "Analog Input 5 / Data I/O 5", 15 AIN6/D6 (io) "Analog Input 6 / Data I/O 6", 16 AIN7/D7 (io) "Analog Input 7 / Data I/O 7", 17 AIN2/D2 (io) "Analog Input 2 / Data I/O 2", 18 AIN3/D3 (io) "Analog Input 3 / Data I/O 3", 19 AINCOM (in) "Analog Input Common, connect to AGND if unused.", 20 AGND (power) "Analog Ground", 21 AVDD (power) "Analog Power Supply", 22 POL (in) "Serial Clock Polarity", 23 ~{CS} (in) "Active LOW, Chip Select", 24 DIN (in) "Serial Data Input, Schmitt Trigger", 25 DOUT (hiz) "Serial Data Output", 26 SCLK (in) "Serial Clock, Schmitt Trigger", 27 ~{DRDY} (out) "Active LOW, Data Ready", 28 BUFEN (in) "Buffer Enable"

## ADS1241EG4
designator U?
24-Bit ADC, -40 to 85 degC, 28-pin SOP (DB28), Green (RoHS & no Sb/Br); Manufacturer: Texas Instruments; PartNumber: ADS1241EG4; # Input Channels: 8; Analog Voltage AV/DD(Max)(V): 5.25; Analog Voltage AV/DD(Min)(V): 2.7; Architecture: Delta-Sigma; Interface: Serial SPI; Resolution(Bits): 24; Sample Rate (max)(SPS): 15; SubFamily: Precision ADC (<=10MSPS); DatasheetVersion: SBAS173E; PackageVersion: 4040065/E, 12/2001; PackageReference: DB28; PackageDescription: 28-Pin Plastic Small Outline, Body 10.2 X 5.3 mm, Pitch 0.65 mm; Supplier 1: Digi-Key; Supplier Part Number 1: TLC2574IPWG4-ND; Digital Supply(Max)(V): 5.25; Digital Supply(Min)(V): 2.7; Eco-Plan: Green (RoHS & no Sb/Br); Mounting Technology: Surface Mount; Code_JEDEC: MO-150; ComponentLink1Description: Manufacturer URL; ComponentLink1URL: http://www.ti.com/; ComponentLink2Description: Datasheet; ComponentLink2URL: http://www.ti.com/general/docs/lit/getliterature.tsp?genericPartNumber=ADS1241&fileType=pdf; ComponentLink3Description: Package Specification; ComponentLink3URL: http://www.ti.com/lit/ml/msso002e/msso002e.pdf
footprint TI-DB28_N (SOP, 28-Leads, Body 10.2x5.3mm, Pitch 0.65mm, IPC Medium Density)
footprint TI-DB28_L (SOP, 28-Leads, Body 10.2x5.3mm, Pitch 0.65mm, IPC High Density)
footprint TI-DB28_M (SOP, 28-Leads, Body 10.2x5.3mm, Pitch 0.65mm, IPC Low Density)
pins: 1 DVDD (power) "Digital Power Supply", 2 DGND (power) "Digital Ground", 3 XIN (in) "Clock Input", 4 XOUT "Clock Output, used with external crystals.", 5 ~{RESET} (in) "Active LOW, resets the entire device.", 6 ~{DSYNC} (in) "Active LOW, Synchronization Control", 7 ~{PDWN} (in) "Active LOW, Power Down. The power down func tion shuts down the analog and digital circuits.", 8 DGND (power) "Digital Ground", 9 VREF+ (in) "Positive Differential Reference Input", 10 VREF- (in) "Negative Differential Reference Input", 11 AIN0/D0 (io) "Analog Input 0 / Data I/O 0", 12 AIN1/D1 (io) "Analog Input 1 / Data I/O 1", 13 AIN4/D4 (io) "Analog Input 4 / Data I/O 4", 14 AIN5/D5 (io) "Analog Input 5 / Data I/O 5", 15 AIN6/D6 (io) "Analog Input 6 / Data I/O 6", 16 AIN7/D7 (io) "Analog Input 7 / Data I/O 7", 17 AIN2/D2 (io) "Analog Input 2 / Data I/O 2", 18 AIN3/D3 (io) "Analog Input 3 / Data I/O 3", 19 AINCOM (in) "Analog Input Common, connect to AGND if unused.", 20 AGND (power) "Analog Ground", 21 AVDD (power) "Analog Power Supply", 22 POL (in) "Serial Clock Polarity", 23 ~{CS} (in) "Active LOW, Chip Select", 24 DIN (in) "Serial Data Input, Schmitt Trigger", 25 DOUT (hiz) "Serial Data Output", 26 SCLK (in) "Serial Clock, Schmitt Trigger", 27 ~{DRDY} (out) "Active LOW, Data Ready", 28 BUFEN (in) "Buffer Enable"

## ADS1242IPWR
designator U?
24-Bit ADC, 4 Channel, PGA 1:128, 50 / 60 Hz Notch, 0.6 mW Power Consumption, -40 to 85 degC, 16-pin SOP (PW16), Green (RoHS & no Sb/Br); Manufacturer: Texas Instruments; PartNumber: ADS1242IPWR; # Input Channels: 4; Analog Voltage AV/DD(Max)(V): 5.25; Analog Voltage AV/DD(Min)(V): 2.7; Architecture: Delta-Sigma; Interface: Serial SPI; Resolution(Bits): 24; Sample Rate (max)(SPS): 15; SubFamily: Precision ADC (<=10MSPS); DatasheetVersion: SBAS235G; PackageVersion: 4040064-4/G, 02/2011; PackageReference: PW16; PackageDescription: 16-Pin Plastic Small Outline, Body 5 x 4.4 mm, Pitch 0.65 mm; Supplier 1: Digi-Key; Supplier Part Number 1: TLC3544CPW-ND; Digital Supply(Max)(V): 5.25; Digital Supply(Min)(V): 2.7; Eco-Plan: Green (RoHS & no Sb/Br); Mounting Technology: Surface Mount; Code_JEDEC: MO-153; ComponentLink1Description: Manufacturer URL; ComponentLink1URL: http://www.ti.com/; ComponentLink2Description: Datasheet; ComponentLink2URL: http://www.ti.com/general/docs/lit/getliterature.tsp?genericPartNumber=ADS1242&fileType=pdf; ComponentLink3Description: Package Specification; ComponentLink3URL: http://www.ti.com/lit/ml/mpds361/mpds361.pdf
footprint TI-PW16_N (SOP, 16-Leads, Body 5x4.4mm, Pitch 0.65mm, IPC Medium Density)
footprint TI-PW16_L (SOP, 16-Leads, Body 5x4.4mm, Pitch 0.65mm, IPC High Density)
footprint TI-PW16_M (SOP, 16-Leads, Body 5x4.4mm, Pitch 0.65mm, IPC Low Density)
pins: 1 VDD (power) "Power Supply", 2 XIN (in) "Clock Input", 3 XOUT "Clock Output, used with crystal or ceramic resonator", 4 ~{PDWN} (in) "Active LOW. Power Down. The power down function shuts down the analog and digital circuits", 5 VREF+ (in) "Positive Differential Reference Input", 6 VREF- (in) "Negative Differential Reference Input", 7 AIN0/D0 (io) "Analog Input 0/Data I/O 0", 8 AIN1/D1 (io) "Analog Input 1/Data I/O 1", 9 AIN2/D2 (io) "Analog Input 2/Data I/O 2", 10 AIN3/D3 (io) "Analog Input 3/Data I/O 3", 11 GND (power) "Ground", 12 ~{CS} (in) "Active LOW, Chip Select", 13 DIN (in) "Serial Data Input, Schmitt Trigger", 14 DOUT (hiz) "Serial Data Output", 15 SCLK (in) "Serial Clock, Schmitt Trigger", 16 ~{DRDY} (out) "Active LOW, Data Ready"

## ADS1242IPWRG4
designator U?
24-Bit ADC, 4 Channel, PGA 1:128, 50 / 60 Hz Notch, 0.6 mW Power Consumption, -40 to 85 degC, 16-pin SOP (PW16), Green (RoHS & no Sb/Br); Manufacturer: Texas Instruments; PartNumber: ADS1242IPWRG4; # Input Channels: 4; Analog Voltage AV/DD(Max)(V): 5.25; Analog Voltage AV/DD(Min)(V): 2.7; Architecture: Delta-Sigma; Interface: Serial SPI; Resolution(Bits): 24; Sample Rate (max)(SPS): 15; SubFamily: Precision ADC (<=10MSPS); DatasheetVersion: SBAS235G; PackageVersion: 4040064-4/G, 02/2011; PackageReference: PW16; PackageDescription: 16-Pin Plastic Small Outline, Body 5 x 4.4 mm, Pitch 0.65 mm; Supplier 1: Digi-Key; Supplier Part Number 1: TLC3544CPWG4-ND; Digital Supply(Max)(V): 5.25; Digital Supply(Min)(V): 2.7; Eco-Plan: Green (RoHS & no Sb/Br); Mounting Technology: Surface Mount; Code_JEDEC: MO-153; ComponentLink1Description: Manufacturer URL; ComponentLink1URL: http://www.ti.com/; ComponentLink2Description: Datasheet; ComponentLink2URL: http://www.ti.com/general/docs/lit/getliterature.tsp?genericPartNumber=ADS1242&fileType=pdf; ComponentLink3Description: Package Specification; ComponentLink3URL: http://www.ti.com/lit/ml/mpds361/mpds361.pdf
footprint TI-PW16_N (SOP, 16-Leads, Body 5x4.4mm, Pitch 0.65mm, IPC Medium Density)
footprint TI-PW16_L (SOP, 16-Leads, Body 5x4.4mm, Pitch 0.65mm, IPC High Density)
footprint TI-PW16_M (SOP, 16-Leads, Body 5x4.4mm, Pitch 0.65mm, IPC Low Density)
pins: 1 VDD (power) "Power Supply", 2 XIN (in) "Clock Input", 3 XOUT "Clock Output, used with crystal or ceramic resonator", 4 ~{PDWN} (in) "Active LOW. Power Down. The power down function shuts down the analog and digital circuits", 5 VREF+ (in) "Positive Differential Reference Input", 6 VREF- (in) "Negative Differential Reference Input", 7 AIN0/D0 (io) "Analog Input 0/Data I/O 0", 8 AIN1/D1 (io) "Analog Input 1/Data I/O 1", 9 AIN2/D2 (io) "Analog Input 2/Data I/O 2", 10 AIN3/D3 (io) "Analog Input 3/Data I/O 3", 11 GND (power) "Ground", 12 ~{CS} (in) "Active LOW, Chip Select", 13 DIN (in) "Serial Data Input, Schmitt Trigger", 14 DOUT (hiz) "Serial Data Output", 15 SCLK (in) "Serial Clock, Schmitt Trigger", 16 ~{DRDY} (out) "Active LOW, Data Ready"

## ADS1242IPWT
designator U?
24-Bit ADC, 4 Channel, PGA 1:128, 50 / 60 Hz Notch, 0.6 mW Power Consumption, -40 to 85 degC, 16-pin SOP (PW16), Green (RoHS & no Sb/Br); Manufacturer: Texas Instruments; PartNumber: ADS1242IPWT; # Input Channels: 4; Analog Voltage AV/DD(Max)(V): 5.25; Analog Voltage AV/DD(Min)(V): 2.7; Architecture: Delta-Sigma; Interface: Serial SPI; Resolution(Bits): 24; Sample Rate (max)(SPS): 15; SubFamily: Precision ADC (<=10MSPS); DatasheetVersion: SBAS235G; PackageVersion: 4040064-4/G, 02/2011; PackageReference: PW16; PackageDescription: 16-Pin Plastic Small Outline, Body 5 x 4.4 mm, Pitch 0.65 mm; Supplier 1: Digi-Key; Supplier Part Number 1: TLC3544CPWR-ND; Digital Supply(Max)(V): 5.25; Digital Supply(Min)(V): 2.7; Eco-Plan: Green (RoHS & no Sb/Br); Mounting Technology: Surface Mount; Code_JEDEC: MO-153; ComponentLink1Description: Manufacturer URL; ComponentLink1URL: http://www.ti.com/; ComponentLink2Description: Datasheet; ComponentLink2URL: http://www.ti.com/general/docs/lit/getliterature.tsp?genericPartNumber=ADS1242&fileType=pdf; ComponentLink3Description: Package Specification; ComponentLink3URL: http://www.ti.com/lit/ml/mpds361/mpds361.pdf
footprint TI-PW16_N (SOP, 16-Leads, Body 5x4.4mm, Pitch 0.65mm, IPC Medium Density)
footprint TI-PW16_L (SOP, 16-Leads, Body 5x4.4mm, Pitch 0.65mm, IPC High Density)
footprint TI-PW16_M (SOP, 16-Leads, Body 5x4.4mm, Pitch 0.65mm, IPC Low Density)
pins: 1 VDD (power) "Power Supply", 2 XIN (in) "Clock Input", 3 XOUT "Clock Output, used with crystal or ceramic resonator", 4 ~{PDWN} (in) "Active LOW. Power Down. The power down function shuts down the analog and digital circuits", 5 VREF+ (in) "Positive Differential Reference Input", 6 VREF- (in) "Negative Differential Reference Input", 7 AIN0/D0 (io) "Analog Input 0/Data I/O 0", 8 AIN1/D1 (io) "Analog Input 1/Data I/O 1", 9 AIN2/D2 (io) "Analog Input 2/Data I/O 2", 10 AIN3/D3 (io) "Analog Input 3/Data I/O 3", 11 GND (power) "Ground", 12 ~{CS} (in) "Active LOW, Chip Select", 13 DIN (in) "Serial Data Input, Schmitt Trigger", 14 DOUT (hiz) "Serial Data Output", 15 SCLK (in) "Serial Clock, Schmitt Trigger", 16 ~{DRDY} (out) "Active LOW, Data Ready"